# Altium integrated library EEEFK1J100L.IntLib: 1 symbol
Pins are listed as number, name and electrical type; pins without a type are passive.

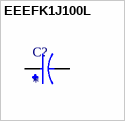
[diagram p0: symbol EEEFK1J100L]

## EEEFK1J100L
designator C?
Cap Aluminum Lytic 10uF 63V 20% (6.3 X 5.8mm) SMD 80mA 2000h 105Â°C Automotive T/R; MF: Panasonic Electronic Components; MP: EEE-FK1J100L; Check_prices: https://www.snapeda.com/parts/EEE-FK1J100L/Panasonic/view-part/5722590/?ref=eda; Value: *; Purchase-URL: https://pricing.snapeda.com/search/part/EEE-FK1J100L/?ref=eda; Package: RADIAL-2 Panasonic; Price: None; Availability: In Stock; SnapEDA_Link: https://www.snapeda.com/parts/EEE-FK1J100L/Panasonic/view-part/5722590/?ref=snap
footprint CAP_EEEFK1J100L
pins: 1, 2